# Altium schematic symbol library ICs_And_Semiconductors.SchLib: 16 symbols
Pins are listed as number, name and electrical type; pins without a type are passive.

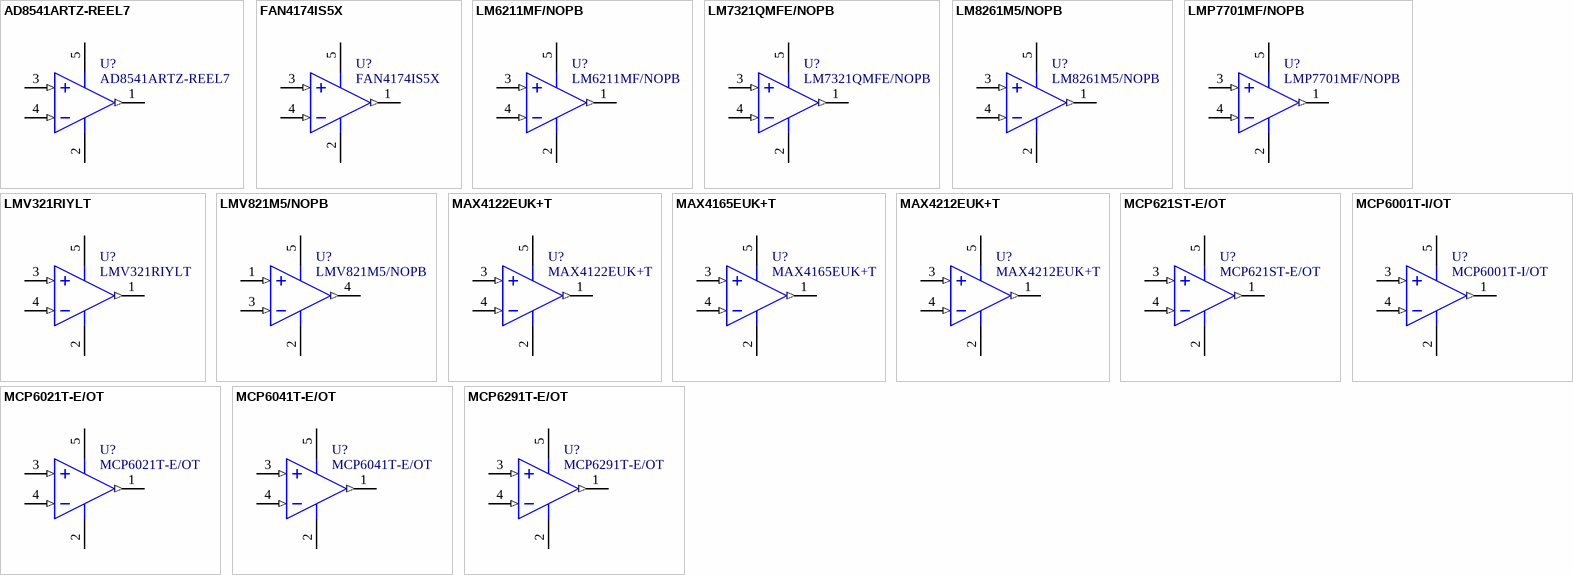
[diagram p0: symbols AD8541ARTZ-REEL7 to MCP6291T-E/OT]

## AD8541ARTZ-REEL7
designator U?
1 MHz, Operational Amplifier, Pin SOT-23, Industrial Temperature, Tape and Reel; Manufacturer: Microchip; Supplier 1: Farnell; Supplier Part Number 1: 2758629; Mounting Technology: SMD; Package: SOT-23-5; Manufacturer Part Number: AD8541ARTZ-REEL7; Value: AD8541ARTZ-REEL7; Part Type: Operational Amplifiers; Mounting: SMD; ComponentLink1Description: Datasheet; ComponentLink1URL: https://www.analog.com/media/en/technical-documentation/data-sheets/AD8541_8542_8544.pdf
footprint SOT95P290X145-5N
pins: 1 VOUT (out), 2 VSS (power), 3 VIN+ (in), 4 VIN- (in), 5 VDD (power)

## FAN4174IS5X
designator U?
3.7 MHz, Operational Amplifier, 5-Pin SOT-23, Industrial Temperature, Tape and Reel; Manufacturer: Microchip; Supplier 1: Farnell; Supplier Part Number 1: 1467284; Mounting Technology: SMD; Package: SOT-23-5; Manufacturer Part Number: FAN4174IS5X; Value: FAN4174IS5X; Part Type: Operational Amplifiers; Mounting: SMD; ComponentLink1Description: Datasheet; ComponentLink1URL: http://www.farnell.com/datasheets/2299965.pdf
footprint SOT95P280X145-5N
pins: 1 VOUT (out), 2 VSS (power), 3 VIN+ (in), 4 VIN- (in), 5 VDD (power)

## LM6211MF/NOPB
designator U?
Low Noise, RRO Operational Amplifier with CMOS Input and 24V Operation, 5-pin SOT-23, Pb-Free; Manufacturer: TEXAS INSTRUMENTS; Supplier 1: Farnell; Supplier Part Number 1: 3050400; Mounting Technology: Surface Mount; Package: SOT-23-5; Manufacturer Part Number: LM6211MF/NOPB; Value: LM6211MF/NOPB; Part Type: Operational Amplifiers; Mounting: SMD; ComponentLink1Description: Datasheet; ComponentLink1URL: https://www.ti.com/lit/ds/symlink/lm6211.pdf?ts=1615975772631
footprint SOT95P280X145-5N
pins: 1 VOUT (out), 2 VSS (power), 3 VIN+ (in), 4 VIN- (in), 5 VDD (power)

## LM7321QMFE/NOPB
designator U?
20 MHz, Low-Power Operational Amplifier, SOT-23-5, Industrial Temperature; Manufacturer: TEXAS INSTRUMENTS; Supplier 1: Farnell; Supplier Part Number 1: 3117107; Mounting Technology: Surface Mount; Package: SOT-23-5; Manufacturer Part Number: LM7321QMFE/NOPB; Value: LM7321QMFE/NOPB; Part Type: Operational Amplifiers; Mounting: SMD; ComponentLink1Description: Datasheet; ComponentLink1URL: http://www.farnell.com/datasheets/2900250.pdf
footprint SOT95P280X145-5N
pins: 1 VOUT (out), 2 VSS (power), 3 VIN+ (in), 4 VIN- (in), 5 VDD (power)

## LM8261M5/NOPB
designator U?
21MHz, Operational Amplifier, 5-Pin SOT-23, Industrial Temperature; Manufacturer: TEXAS INSTRUMENTS; Supplier 1: Farnell; Supplier Part Number 1: 3117122; Mounting Technology: Surface Mount; Package: SOT-23-5; Manufacturer Part Number: LM8261M5/NOPB; Value: LM8261M5/NOPB; Part Type: Operational Amplifiers; Mounting: SMD; ComponentLink1Description: Datasheet; ComponentLink1URL: https://www.ti.com/lit/ds/symlink/lm8261.pdf?HQS=dis-mous-null-mousermode-dsf-pf-null-wwe&ts=1615976752535&ref_url=https%253A%252F%252Feu.mouser.com%252F
footprint SOT95P270X145-5N
pins: 1 VOUT (out), 2 VSS (power), 3 VIN+ (in), 4 VIN- (in), 5 VDD (power)

## LMP7701MF/NOPB
designator U?
2.5 MHz, Low-Power Operational Amplifier, SOT-23-5, Industrial Temperature; Manufacturer: TEXAS INSTRUMENTS; Supplier 1: Farnell; Supplier Part Number 1: 3117209; Mounting Technology: Surface Mount; Package: SOT-23-5; Manufacturer Part Number: LMP7701MF/NOPB; Value: LMP7701MF/NOPB; Part Type: Operational Amplifiers; Mounting: SMD; ComponentLink1Description: Datasheet; ComponentLink1URL: https://datasheet.octopart.com/LMP7701MF-NOPB-Texas-Instruments-datasheet-61244185.pdf
footprint SOT95P280X145-5N
pins: 1 VOUT (out), 2 VSS (power), 3 VIN+ (in), 4 VIN- (in), 5 VDD (power)

## LMV321RIYLT
designator U?
1 MHz, Low-Power Operational Amplifier, 5-Pin SOT-23, Tape and Reel; Manufacturer: STMICROELECTRONICS; Supplier 1: Farnell; Supplier Part Number 1: 1842591; Mounting Technology: Surface Mount; Package: SOT-23-5; Manufacturer Part Number: LMV321RIYLT; Value: LMV321RIYLT; Part Type: Operational Amplifiers; Mounting: SMD; ComponentLink1Description: Datasheet; ComponentLink1URL: https://4donline.ihs.com/images/VipMasterIC/IC/SGST/SGST-S-A0001364142/SGST-S-A0001364142-1.pdf?hkey=52A5661711E402568146F3353EA87419
footprint SOT95P280X145-5N
pins: 1 VOUT (out), 2 VDD (power), 3 VIN+ (in), 4 VIN- (in), 5 VCC (power)

## LMV821M5/NOPB
designator U?
5 MHz, Low-Power Operational Amplifier, 5-Pin, SOT23-5, Industrial Temperature, Tape and Reel; Manufacturer: TEXAS INSTRUMENTS; Supplier 1: Farnell; Supplier Part Number 1: 3004761; Mounting Technology: SMD; Package: SOT-23-5; Manufacturer Part Number: LMV821M5/NOPB; Value: LMV821M5/NOPB; Part Type: Operational Amplifiers; Mounting: SMD; ComponentLink1Description: Datasheet; ComponentLink1URL: https://www.ti.com/lit/ds/symlink/lmv821-n.pdf
footprint SOT95P280X145-5N
pins: 1 VIN+ (in), 2 VSS (power), 3 VIN- (in), 4 VOUT (out), 5 VDD (power)

## MAX4122EUK+T
designator U?
5 MHz, Rail-to-Rail Operational Amplifier, 5-pin SOT-23; Manufacturer: MAXIM INTEGRATED PRODUCTS; Supplier 1: Farnell; Supplier Part Number 1: 2518587; Mounting Technology: Surface Mount; Package: SOT-23-5; Manufacturer Part Number: MAX4122EUK+T; Value: MAX4122EUK+T; Part Type: Operational Amplifiers; Mounting: SMD; ComponentLink1Description: Datasheet; ComponentLink1URL: http://www.farnell.com/datasheets/9885.pdf
footprint SOT95P280X145-5N
pins: 1 VOUT (out), 2 VSS (power), 3 VIN+ (in), 4 VIN- (in), 5 VDD (power)

## MAX4165EUK+T
designator U?
5 MHz Rail-to-Rail Operational Amplifier, 5-Pin SOT-23, Industrial Temperature, Tape and Reel; Manufacturer: Microchip; Supplier 1: Farnell; Supplier Part Number 1: 2511012; Mounting Technology: SMD; Package: SOT-23-5; Manufacturer Part Number: MAX4165EUK+T; Value: MAX4165EUK+T; Part Type: Operational Amplifiers; Mounting: SMD; ComponentLink1Description: Datasheet; ComponentLink1URL: http://www.farnell.com/datasheets/726567.pdf
footprint SOT95P280X145-5N
pins: 1 VOUT (out), 2 VSS (power), 3 VIN+ (in), 4 VIN- (in), 5 VDD (power)

## MAX4212EUK+T
designator U?
300 MHz, Rail-to-Rail Operational Amplifier, 5-pin SOT-23; Manufacturer: MAXIM INTEGRATED PRODUCTS; Supplier 1: Farnell; Supplier Part Number 1: 2765014; Mounting Technology: Surface Mount; Package: SOT-23-5; Manufacturer Part Number: MAX4212EUK+T; Value: MAX4212EUK+T; Part Type: Operational Amplifiers; Mounting: SMD; ComponentLink1Description: Datasheet; ComponentLink1URL: http://www.farnell.com/datasheets/32471.pdf
footprint SOT95P280X145-5N
pins: 1 VOUT (out), 2 VSS (power), 3 VIN+ (in), 4 VIN- (in), 5 VDD (power)

## MCP621ST-E/OT
designator U?
20 MHz, Low-Power Operational Amplifier, 5-Pin SOT-23, Industrial Temperature; Manufacturer: Microchip; Supplier 1: Farnell; Supplier Part Number 1: 2064538; Mounting Technology: Surface Mount; Package: SOT-23-5; Manufacturer Part Number: MCP621ST-E/OT; Value: MCP621ST-E/OT; Part Type: Operational Amplifiers; Mounting: SMD; ComponentLink1Description: Datasheet; ComponentLink1URL: http://www.farnell.com/datasheets/2133454.pdf
footprint SOT95P270X145-5N
pins: 1 VOUT (out), 2 VSS (power), 3 VIN+ (in), 4 VIN- (in), 5 VDD (power)

## MCP6001T-I/OT
designator U?
1 MHz, Low-Power Operational Amplifier, 5-Pin SOT-23, Industrial Temperature, Tape and Reel; Manufacturer: Microchip; Supplier 1: Farnell; Supplier Part Number 1: 4974992; Mounting Technology: SMD; Package: SOT-23-5; Manufacturer Part Number: MCP6001T-I/OT; Value: MCP6001T-I/OT; Part Type: Operational Amplifiers; Mounting: SMD; ComponentLink1Description: Datasheet; ComponentLink1URL: https://ww1.microchip.com/downloads/en/DeviceDoc/MCP6001-1R-1U-2-4-1-MHz-Low-Power-Op-Amp-DS20001733L.pdf
footprint SOT95P270X145-5N
pins: 1 VOUT (out), 2 VSS (power), 3 VIN+ (in), 4 VIN- (in), 5 VDD (power)

## MCP6021T-E/OT
designator U?
10 MHz, Low-Power Operational Amplifier, 5-Pin, SOT23-5, Industrial Temperature, Tape and Reel; Manufacturer: Microchip; Supplier 1: Farnell; Supplier Part Number 1: 1605573; Mounting Technology: SMD; Package: SOT-23-5; Manufacturer Part Number: MCP6021T-E/OT; Value: MCP6021T-E/OT; Part Type: Operational Amplifiers; Mounting: SMD; ComponentLink1Description: Datasheet; ComponentLink1URL: http://www.farnell.com/datasheets/630323.pdf
footprint SOT95P270X145-5N
pins: 1 VOUT (out), 2 VSS (power), 3 VIN+ (in), 4 VIN- (in), 5 VDD (power)

## MCP6041T-E/OT
designator U?
14 kHz, Operational Amplifier, 5-Pin SOT-23, Industrial Temperature, Tape and Reel; Manufacturer: Microchip; Supplier 1: Farnell; Supplier Part Number 1: 1840872; Mounting Technology: SMD; Package: SOT-23-5; Manufacturer Part Number: MCP6041T-E/OT; Value: MCP6041T-E/OT; Part Type: Operational Amplifiers; Mounting: SMD; ComponentLink1Description: Datasheet; ComponentLink1URL: http://www.farnell.com/datasheets/1791046.pdf
footprint SOT95P270X145-5N
pins: 1 VOUT (out), 2 VSS (power), 3 VIN+ (in), 4 VIN- (in), 5 VDD (power)

## MCP6291T-E/OT
designator U?
10 MHz Rail-to-Rail Operational Amplifier, 5-Pin SOT-23, Extended Temperature, Tape and Reel; Manufacturer: Microchip; Supplier 1: Farnell; Supplier Part Number 1: 1439464; Mounting Technology: SMD; Package: SOT-23-5; Manufacturer Part Number: MCP6291T-E/OT; Value: MCP6291T-E/OT; Part Type: Operational Amplifiers; Mounting: SMD; ComponentLink1Description: Datasheet; ComponentLink1URL: http://www.farnell.com/datasheets/809135.pdf
footprint SOT95P280X145-5N
pins: 1 VOUT (out), 2 VSS (power), 3 VIN+ (in), 4 VIN- (in), 5 VDD (power)